# Altium footprint library Samtec-TSW-Series.PcbLib: 3 footprints
Each footprint in its own frame and in the unit in brackets; x right, y up, seen from the top. Pads: shape width x height; smd on the part's side, far side on the other; paste and mask are expansions set on the pad; w line width, h text height; cw(c..) or ccw(c..) is an arc to the next point about the centre after c.
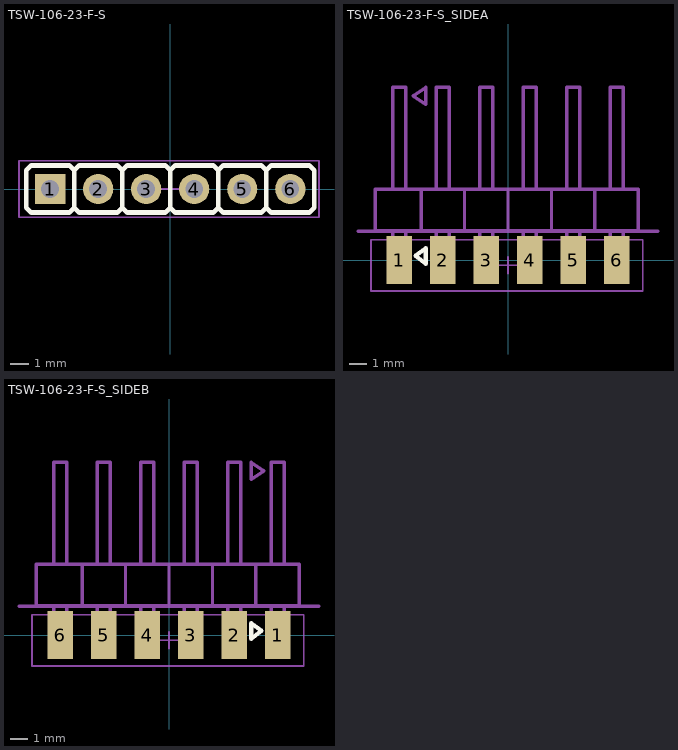
[diagram p0: the footprints below, top view; thin cyan lines are the x and y axes]

## TSW-106-23-F-S [mm] "Connector Header Through Hole 6 position 0.100\" (2.54mm)"
height 8.51
pads (6):
  rect 1.6x1.6 hole 0.95 unplated: 1(-6.35,0)
  round 1.6 hole 0.95 unplated: 2(-3.81,0) 3(-1.27,0) 4(1.27,0) 5(3.81,0) 6(6.35,0)
Top Overlay:
  lines w0.254: -5.08,-0.98 -4.815,-1.245 -2.805,-1.245 -2.54,-0.98 ; -5.08,-0.98 -5.08,0.98 ; -5.08,-0.98 -5.345,-1.245 -7.355,-1.245 -7.62,-0.98 -7.62,0.98 -7.355,1.245 -5.345,1.245 -5.08,0.98 ; -5.08,0.98 -4.815,1.245 -2.805,1.245 -2.54,0.98 ; -2.54,-0.98 -2.275,-1.245 -0.265,-1.245 0,-0.98 ; -2.54,-0.98 -2.54,0.98 ; -2.54,0.98 -2.275,1.245 -0.265,1.245 0,0.98 ; 0,-0.98 0.265,-1.245 2.275,-1.245 2.54,-0.98 ; 0,-0.98 0,0.98 ; 0,0.98 0.265,1.245 2.275,1.245 2.54,0.98 ; 2.54,-0.98 2.805,-1.245 4.815,-1.245 5.08,-0.98 ; 2.54,-0.98 2.54,0.98 ; 2.54,0.98 2.805,1.245 4.815,1.245 5.08,0.98 ; 5.08,-0.98 5.345,-1.245 7.355,-1.245 7.62,-0.98 7.62,0.98 7.355,1.245 5.345,1.245 5.08,0.98 ; 5.08,-0.98 5.08,0.98
Top Assembly:
  lines w0.2: -5.08,-0.98 -5.08,0.98 ; -5.08,-0.98 -5.345,-1.245 -7.355,-1.245 -7.62,-0.98 -7.62,0.98 -7.355,1.245 -5.345,1.245 -5.08,0.98 ; -5.08,-0.98 -4.815,-1.245 -2.805,-1.245 -2.54,-0.98 ; -5.08,0.98 -4.815,1.245 -2.805,1.245 -2.54,0.98 ; -2.54,-0.98 -2.54,0.98 ; -2.54,-0.98 -2.275,-1.245 -0.265,-1.245 0,-0.98 ; -2.54,0.98 -2.275,1.245 -0.265,1.245 0,0.98 ; 0,-0.98 0,0.98 ; 0,-0.98 0.265,-1.245 2.275,-1.245 2.54,-0.98 ; 0,0.98 0.265,1.245 2.275,1.245 2.54,0.98 ; 2.54,-0.98 2.54,0.98 ; 2.54,-0.98 2.805,-1.245 4.815,-1.245 5.08,-0.98 ; 2.54,0.98 2.805,1.245 4.815,1.245 5.08,0.98 ; 5.08,-0.98 5.08,0.98 ; 5.08,-0.98 5.345,-1.245 7.355,-1.245 7.62,-0.98 7.62,0.98 7.355,1.245 5.345,1.245 5.08,0.98
Top Designator:
  text ".Designator" at -7.917,1.884 h1
Top Courtyard:
  lines w0.1: -0.5,0 0.5,0 ; 0,-0.5 0,0.5 ; -8,-1.495 0,-1.495 7.87,-1.495 7.87,1.495 0,1.495 -8,1.495 -8,-1.495
3D body "TSW-106-23-F-S.stp": height 8.38, standoff -2.92, extent -7.747,-1.27 7.62,1.27

## TSW-106-23-F-S_SIDEA [mm] "Connector Header Through Hole 6 position 0.100\" (2.54mm)"
height 8.51
pads (6):
  rect 1.5x2.8 smd paste-5: 1(-6.35,0) 2(-3.81,0) 3(-1.27,0) 4(1.27,0) 5(3.81,0) 6(6.35,0)
Top Overlay:
  lines w0.254: -5.4,0.25 -4.8,-0.2 -4.8,0.7 -5.4,0.25
Top Placement Guide (Mech7):
  lines w0.2: -8.763,1.7 8.763,1.7
  text "Board Edge" at -8.7,2.267 h0.8
Top Assembly:
  lines w0.2: -6.731,1.732 -6.731,-1.189 -5.969,-1.189 -5.969,1.732 ; -6.731,4.145 -6.731,10.114 -5.969,10.114 -5.969,4.145 ; -5.08,1.732 -5.08,4.082 ; -4.191,1.732 -4.191,-1.189 -3.429,-1.189 -3.429,1.732 ; -4.191,4.145 -4.191,10.114 -3.429,10.114 -3.429,4.145 ; -2.54,1.732 -2.54,4.082 ; -1.651,1.732 -1.651,-1.189 -0.889,-1.189 -0.889,1.732 ; -1.651,4.145 -1.651,10.114 -0.889,10.114 -0.889,4.145 ; 0,1.732 0,4.082 ; 0.889,1.732 0.889,-1.189 1.651,-1.189 1.651,1.732 ; 0.889,4.145 0.889,10.114 1.651,10.114 1.651,4.145 ; 2.54,1.732 2.54,4.082 ; 3.429,1.732 3.429,-1.189 4.191,-1.189 4.191,1.732 ; 3.429,4.145 3.429,10.114 4.191,10.114 4.191,4.145 ; 5.08,1.732 5.08,4.082 ; 5.969,1.732 5.969,-1.189 6.731,-1.189 6.731,1.732 ; 5.969,4.145 5.969,10.114 6.731,10.114 6.731,4.145 ; -7.747,1.732 -7.747,4.145 7.62,4.145 7.62,1.732 -7.747,1.732 ; -5.55,9.6 -4.8,9.1 -4.8,10.1 -5.55,9.6
Top Designator:
  text ".Designator" at -7.801,-3.196 h1
Top Courtyard:
  lines w0.1: -0.5,-0.3 0.5,-0.3 ; 0,-0.8 0,0.2 ; -8,-1.795 0,-1.795 7.87,-1.795 7.87,1.195 0,1.195 -8,1.195 -8,-1.795
3D body "TSW-106-23-F-S.stp": height 1.62, standoff -0.92, extent -7.747,-1.205 7.62,10.098

## TSW-106-23-F-S_SIDEB [mm] "Connector Header Through Hole 6 position 0.100\" (2.54mm)"
height 8.51
pads (6):
  rect 1.5x2.8 smd paste-5: 1(6.35,0) 2(3.81,0) 3(1.27,0) 4(-1.27,0) 5(-3.81,0) 6(-6.35,0)
Top Overlay:
  lines w0.254: 4.8,-0.2 4.8,0.7 5.4,0.25 4.8,-0.2
Top Placement Guide (Mech7):
  lines w0.2: -8.763,1.7 8.763,1.7
  text "Board Edge" at -8.7,2.267 h0.8
Top Assembly:
  lines w0.2: -6.731,1.732 -6.731,-1.189 -5.969,-1.189 -5.969,1.732 ; -6.731,4.145 -6.731,10.114 -5.969,10.114 -5.969,4.145 ; -5.08,1.732 -5.08,4.082 ; -4.191,1.732 -4.191,-1.189 -3.429,-1.189 -3.429,1.732 ; -4.191,4.145 -4.191,10.114 -3.429,10.114 -3.429,4.145 ; -2.54,1.732 -2.54,4.082 ; -1.651,1.732 -1.651,-1.189 -0.889,-1.189 -0.889,1.732 ; -1.651,4.145 -1.651,10.114 -0.889,10.114 -0.889,4.145 ; 0,1.732 0,4.082 ; 0.889,1.732 0.889,-1.189 1.651,-1.189 1.651,1.732 ; 0.889,4.145 0.889,10.114 1.651,10.114 1.651,4.145 ; 2.54,1.732 2.54,4.082 ; 3.429,1.732 3.429,-1.189 4.191,-1.189 4.191,1.732 ; 3.429,4.145 3.429,10.114 4.191,10.114 4.191,4.145 ; 5.08,1.732 5.08,4.082 ; 5.969,1.732 5.969,-1.189 6.731,-1.189 6.731,1.732 ; 5.969,4.145 5.969,10.114 6.731,10.114 6.731,4.145 ; -7.747,1.732 -7.747,4.145 7.62,4.145 7.62,1.732 -7.747,1.732 ; 4.8,9.1 4.8,10.1 5.55,9.6 4.8,9.1
Top Designator:
  text ".Designator" at -7.801,-3.196 h1
Top Courtyard:
  lines w0.1: -0.5,-0.3 0.5,-0.3 ; 0,-0.8 0,0.2 ; -8,-1.795 0,-1.795 7.87,-1.795 7.87,1.195 0,1.195 -8,1.195 -8,-1.795
3D body "TSW-106-23-F-S.stp": height 1.62, standoff -0.92, extent -7.747,-1.205 7.62,10.098